# EAGLE library part 6B8 (library radiotubes)
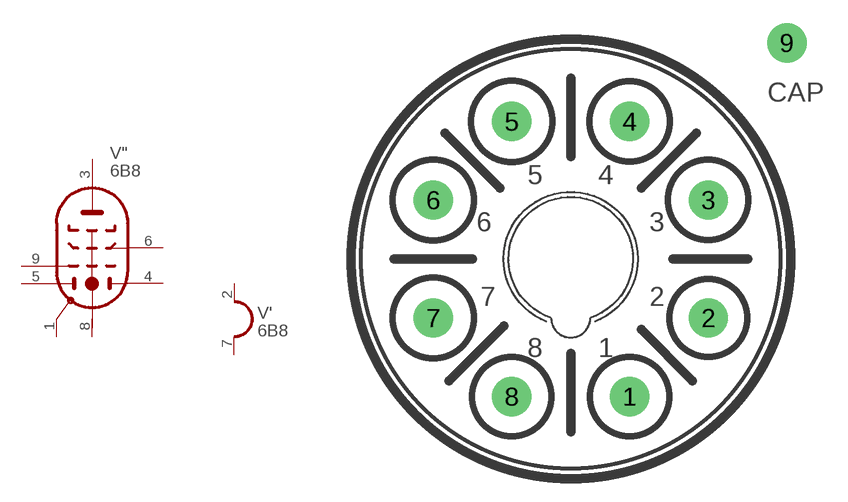
[diagram p122: symbol with the pads of OCTAL-C; footprint OCTAL-C]

Designator prefix V; gates '=HEATER_1 "=EBF2

## 6B8  [OCTAL-C]
1  ":M  pas
2  ':H1  pas
3  ":PA  pas
4  ":D2  pas
5  ":D1  pas
6  ":PG2  pas
7  ':H2  pas
8  ":K,G3  pas
9  ":PG1  pas

## Footprint OCTAL-C (pad centres in mm)
drill 1.27 pad 2.54: 1 3.81,-8.89; 2 8.89,-3.81; 3 8.89,3.81; 4 3.81,8.89; 5 -3.81,8.89; 6 -8.89,3.81; 7 -8.89,-3.81; 8 -3.81,-8.89; 9 13.97,13.97